# Altium schematic symbol library Header 9.SchLib: 1 symbol
Pins are listed as number, name and electrical type; pins without a type are passive.

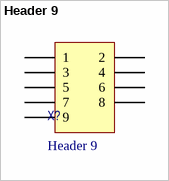
[diagram p0: symbol Header 9]

## Header 9
designator X?
Header, 9-Pin
footprint MDM-9
pins: 1, 2, 3, 4, 5, 6, 7, 8, 9